# Altium footprint library NX.PcbLib: 23 footprints (part 1 of 2)
Each footprint in its own frame and in the unit in brackets; x right, y up, seen from the top. Pads: shape width x height; smd on the part's side, far side on the other; paste and mask are expansions set on the pad; w line width, h text height; cw(c..) or ccw(c..) is an arc to the next point about the centre after c.
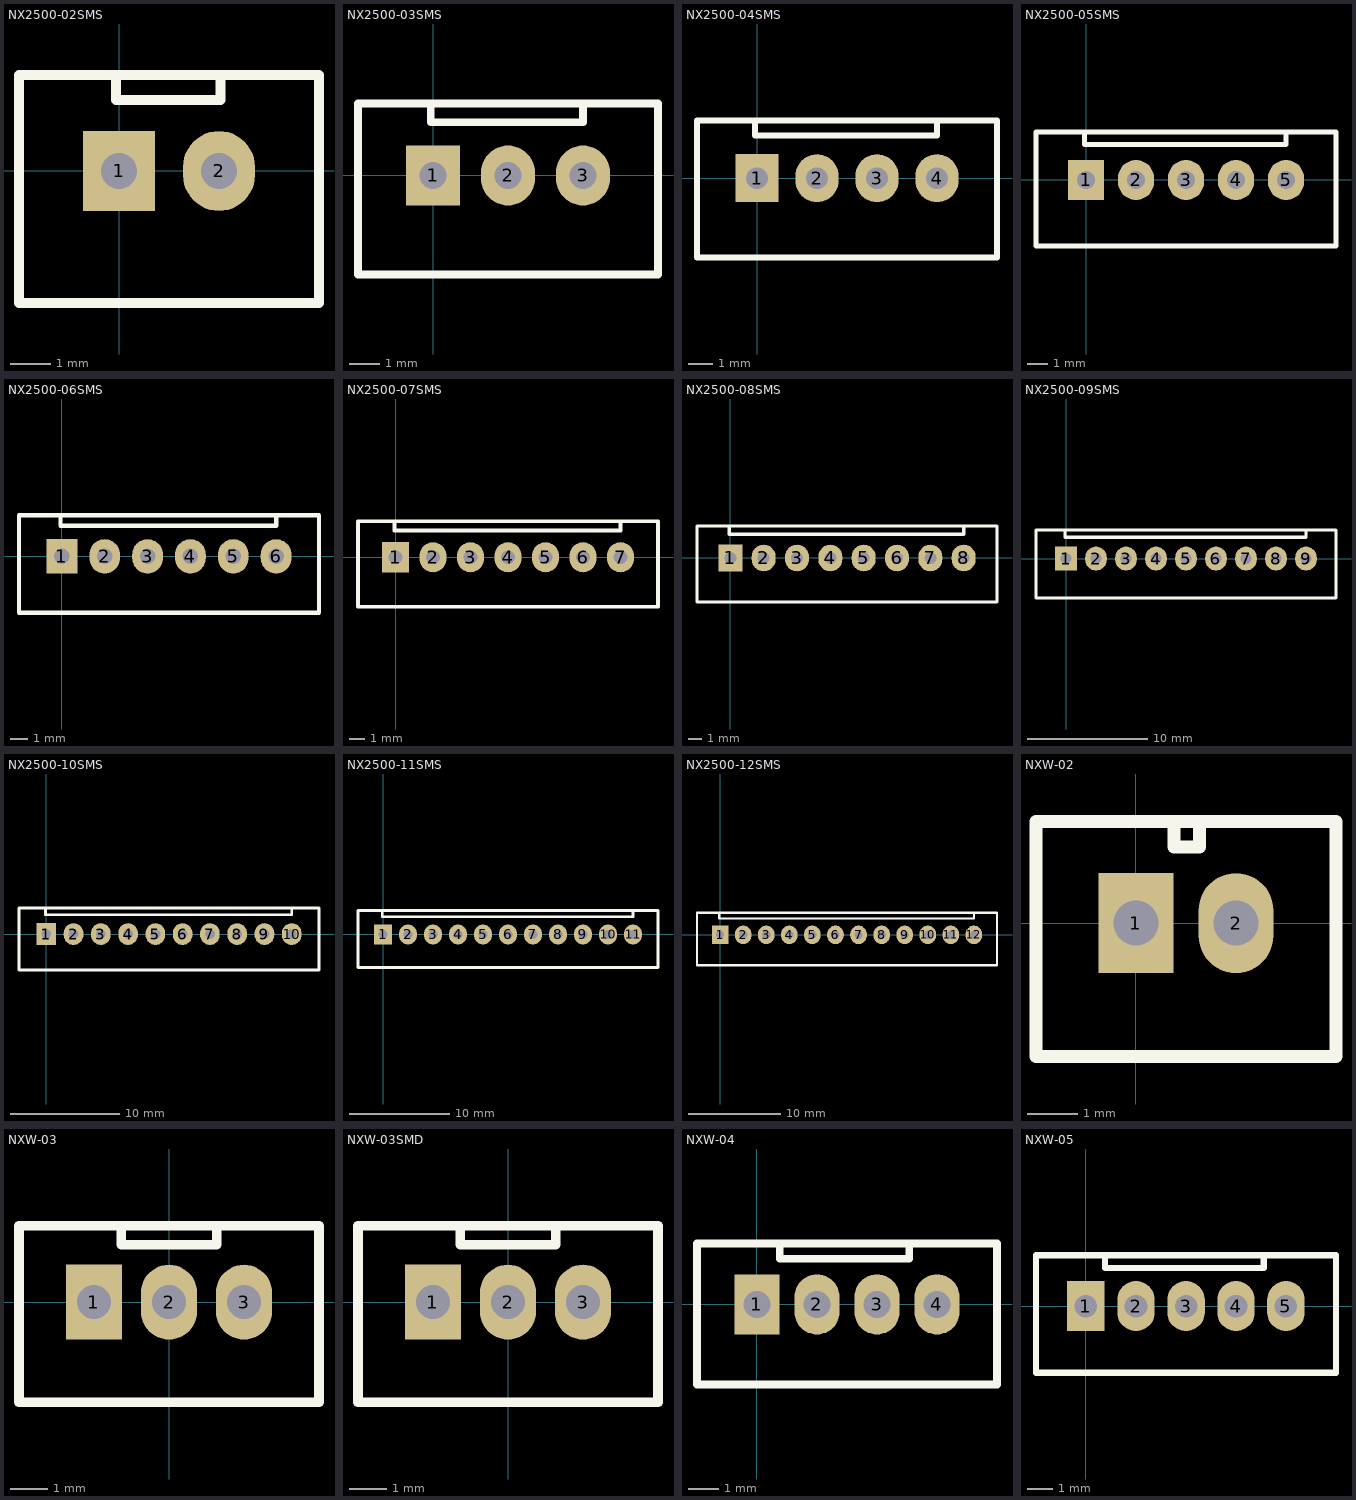
[diagram p0: the footprints below, top view; thin cyan lines are the x and y axes]

## NX2500-02SMS [mm]
height 7
pads (2):
  rect 1.8x2 hole 0.9: 1(0,0)
  oval 1.8x2 hole 0.9: 2(2.5,0)
Top Overlay:
  lines w0.254: -0.076,2.286 -0.076,1.778 2.54,1.778 2.54,2.286 ; -2.5,-3.3 5,-3.3 5,2.4 -2.5,2.4 -2.5,-3.3

## NX2500-03SMS [mm]
height 7
pads (3):
  rect 1.8x2 hole 0.9: 1(0,0)
  oval 1.8x2 hole 0.9: 2(2.5,0) 3(5,0)
Top Overlay:
  lines w0.254: -0.076,2.286 -0.076,1.778 5,1.778 5,2.286 ; -2.5,-3.3 -2.5,2.4 7.5,2.4 7.5,-3.3 -2.5,-3.3

## NX2500-04SMS [mm]
height 7
pads (4):
  rect 1.8x2 hole 0.9: 1(0,0)
  oval 1.8x2 hole 0.9: 2(2.5,0) 3(5,0) 4(7.5,0)
Top Overlay:
  lines w0.254: -0.076,2.286 -0.076,1.778 7.5,1.778 7.5,2.286 ; -2.5,-3.3 10,-3.3 10,2.4 -2.5,2.4 -2.5,-3.3

## NX2500-05SMS [mm]
height 7
pads (5):
  rect 1.8x2 hole 0.9: 1(0,0)
  oval 1.8x2 hole 0.9: 2(2.5,0) 3(5,0) 4(7.5,0) 5(10,0)
Top Overlay:
  lines w0.254: -0.076,2.286 -0.076,1.778 10,1.778 10,2.286 ; -2.5,-3.3 12.5,-3.3 12.5,2.4 -2.5,2.4 -2.5,-3.3

## NX2500-06SMS [mm]
height 7
pads (6):
  rect 1.8x2 hole 0.9: 1(0,0)
  oval 1.8x2 hole 0.9: 2(2.5,0) 3(5,0) 4(7.5,0) 5(10,0) 6(12.5,0)
Top Overlay:
  lines w0.254: -0.076,2.286 -0.076,1.778 12.5,1.778 12.5,2.286 ; -2.5,-3.3 15,-3.3 15,2.4 -2.5,2.4 -2.5,-3.3

## NX2500-07SMS [mm]
height 7
pads (7):
  rect 1.8x2 hole 0.9: 1(0,0)
  oval 1.8x2 hole 0.9: 2(2.5,0) 3(5,0) 4(7.5,0) 5(10,0) 6(12.5,0) 7(15,0)
Top Overlay:
  lines w0.254: -0.076,2.286 -0.076,1.778 15,1.778 15,2.286 ; -2.5,-3.3 -2.5,2.4 17.5,2.4 17.5,-3.3 -2.5,-3.3

## NX2500-08SMS [mm]
height 7
pads (8):
  rect 1.8x2 hole 0.9: 1(0,0)
  oval 1.8x2 hole 0.9: 2(2.5,0) 3(5,0) 4(7.5,0) 5(10,0) 6(12.5,0) 7(15,0) 8(17.5,0)
Top Overlay:
  lines w0.254: -0.076,2.286 -0.076,1.778 17.5,1.778 17.5,2.286 ; -2.5,-3.3 20,-3.3 20,2.4 -2.5,2.4 -2.5,-3.3

## NX2500-09SMS [mm]
height 7
pads (9):
  rect 1.8x2 hole 0.9: 1(0,0)
  oval 1.8x2 hole 0.9: 2(2.5,0) 3(5,0) 4(7.5,0) 5(10,0) 6(12.5,0) 7(15,0) 8(17.5,0) 9(20,0)
Top Overlay:
  lines w0.254: -0.076,2.286 -0.076,1.778 20,1.778 20,2.286 ; -2.5,-3.3 -2.5,2.4 22.5,2.4 22.5,-3.3 -2.5,-3.3

## NX2500-10SMS [mm]
height 7
pads (10):
  rect 1.8x2 hole 0.9: 1(0,0)
  oval 1.8x2 hole 0.9: 2(2.5,0) 3(5,0) 4(7.5,0) 5(10,0) 6(12.5,0) 7(15,0) 8(17.5,0) 9(20,0) 10(22.5,0)
Top Overlay:
  lines w0.254: -0.076,2.286 -0.076,1.778 22.5,1.778 22.5,2.286 ; -2.5,-3.3 -2.5,2.4 25,2.4 25,-3.3 -2.5,-3.3

## NX2500-11SMS [mm]
height 7
pads (11):
  rect 1.8x2 hole 0.9: 1(0,0)
  oval 1.8x2 hole 0.9: 2(2.5,0) 3(5,0) 4(7.5,0) 5(10,0) 6(12.5,0) 7(15,0) 8(17.5,0) 9(20,0) 10(22.5,0) 11(25,0)
Top Overlay:
  lines w0.254: -0.076,2.286 -0.076,1.778 25,1.778 25,2.286 ; -2.5,-3.3 27.5,-3.3 27.5,2.4 -2.5,2.4 -2.5,-3.3

## NX2500-12SMS [mm]
height 7
pads (12):
  rect 1.8x2 hole 0.9: 1(0,0)
  oval 1.8x2 hole 0.9: 2(2.5,0) 3(5,0) 4(7.5,0) 5(10,0) 6(12.5,0) 7(15,0) 8(17.5,0) 9(20,0) 10(22.5,0) 11(25,0) 12(27.5,0)
Top Overlay:
  lines w0.254: -0.076,2.286 -0.076,1.778 27.5,1.778 27.5,2.286 ; -2.5,-3.3 30,-3.3 30,2.4 -2.5,2.4 -2.5,-3.3

## NXW-02 [mm]
pads (2):
  rect 1.5x2 hole 0.9: 1(0,0)
  oval 1.5x2 hole 0.9: 2(2,0)
Top Overlay:
  lines w0.254: 0.762,2.032 0.762,1.524 1.27,1.524 1.27,2.032 ; -2,-2.667 -2,2.032 4,2.032 4,-2.667 -2,-2.667

## NXW-03 [mm]
pads (3):
  rect 1.5x2 hole 0.9: 1(-2,0)
  oval 1.5x2 hole 0.9: 2(0,0) 3(2,0)
Top Overlay:
  lines w0.254: -1.27,2.032 -1.27,1.524 1.27,1.524 1.27,2.032 ; -4,-2.667 4,-2.667 4,2.032 -4,2.032 -4,-2.667

## NXW-03SMD [mm]
pads (3):
  rect 1.5x2 hole 0.9: 1(-2,0)
  oval 1.5x2 hole 0.9: 2(0,0) 3(2,0)
Top Overlay:
  lines w0.254: -1.27,2.032 -1.27,1.524 1.27,1.524 1.27,2.032 ; -4,-2.667 4,-2.667 4,2.032 -4,2.032 -4,-2.667

## NXW-04 [mm]
pads (4):
  rect 1.5x2 hole 0.9: 1(0,0)
  oval 1.5x2 hole 0.9: 2(2,0) 3(4,0) 4(6,0)
Top Overlay:
  lines w0.254: 0.762,2.032 0.762,1.524 5.08,1.524 5.08,2.032 ; -2,-2.667 8,-2.667 8,2.032 -2,2.032 -2,-2.667
3D body "70374359.stp": height 3.03, standoff -6.43, extent -2.003,-2.96 7.997,1.69

## NXW-05 [mm]
pads (5):
  rect 1.5x2 hole 0.9: 1(0,0)
  oval 1.5x2 hole 0.9: 2(2,0) 3(4,0) 4(6,0) 5(8,0)
Top Overlay:
  lines w0.254: 0.762,2.032 0.762,1.524 7.112,1.524 7.112,2.032 ; -2,-2.667 10,-2.667 10,2.032 -2,2.032 -2,-2.667